# EAGLE library part 691701310010B (library Wuerth_Elektronik_eiCan_Terminal_Blocks_v2.0)
WR-TBL SERIE 7015B 5.08MM OPEN VERTICAL PCB HEADER THR TYPE
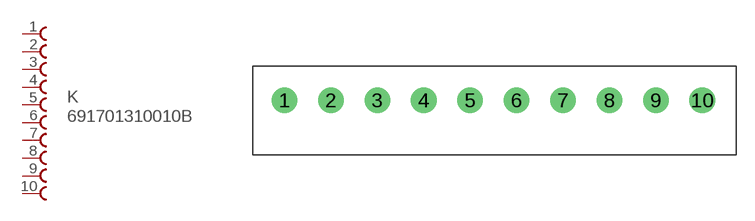
[diagram p329: symbol with the pads of 691701310010B; footprint 691701310010B]

Designator prefix K

## 691701310010B  [691701310010B]
1  1  pas
2  2  pas
3  3  pas
4  4  pas
5  5  pas
6  6  pas
7  7  pas
8  8  pas
9  9  pas
10  10  pas

## Footprint 691701310010B (pad centres in mm)
WR-TBL SERIE 7015B 5.08MM OPEN VERTICAL PCB HEADER THR TYPE
drill 1.4 round: 1 0,0; 2 3.81,0; 3 7.62,0; 4 11.43,0; 5 15.24,0; 6 19.05,0; 7 22.86,0; 8 26.67,0; 9 30.48,0; 10 34.29,0